# EAGLE library part RPI (library Zach)
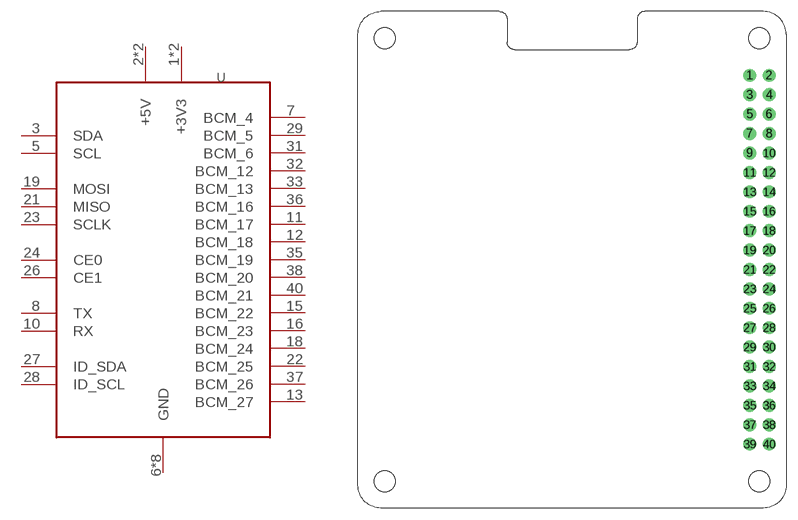
[diagram p3: symbol with the pads of RPI; footprint RPI]

Designator prefix U

## RPI  [RPI]
1  +3V3  pwr
2  +5V  pwr
3  SDA
4  +5V  pwr
5  SCL
6  GND  pas
7  BCM_4
8  TX
9  GND  pas
10  RX
11  BCM_17
12  BCM_18
13  BCM_27
14  GND  pas
15  BCM_22
16  BCM_23
17  +3V3  pwr
18  BCM_24
19  MOSI
20  GND  pas
21  MISO
22  BCM_25
23  SCLK
24  CE0
25  GND  pas
26  CE1
27  ID_SDA
28  ID_SCL
29  BCM_5
30  GND  pas
31  BCM_6
32  BCM_12
33  BCM_13
34  GND  pas
35  BCM_19
36  BCM_16
37  BCM_26
38  BCM_20
39  GND  pas
40  BCM_21

## Footprint RPI (pad centres in mm)
drill 1 pad 1.676: 1 -1.27,24.13; 2 1.27,24.13; 3 -1.27,21.59; 4 1.27,21.59; 5 -1.27,19.05; 6 1.27,19.05; 7 -1.27,16.51; 8 1.27,16.51; 9 -1.27,13.97; 10 1.27,13.97; 11 -1.27,11.43; 12 1.27,11.43; 13 -1.27,8.89; 14 1.27,8.89; 15 -1.27,6.35; 16 1.27,6.35; 17 -1.27,3.81; 18 1.27,3.81; 19 -1.27,1.27; 20 1.27,1.27; 21 -1.27,-1.27; 22 1.27,-1.27; 23 -1.27,-3.81; 24 1.27,-3.81; 25 -1.27,-6.35; 26 1.27,-6.35; 27 -1.27,-8.89; 28 1.27,-8.89; 29 -1.27,-11.43; 30 1.27,-11.43; 31 -1.27,-13.97; 32 1.27,-13.97; 33 -1.27,-16.51; 34 1.27,-16.51; 35 -1.27,-19.05; 36 1.27,-19.05; 37 -1.27,-21.59; 38 1.27,-21.59; 39 -1.27,-24.13; 40 1.27,-24.13
hole 2.75 at 0,29
hole 2.75 at 0,-29
hole 2.75 at -49,29
hole 2.75 at -49,-29